# EAGLE library part AR8035 (library atheros)
Integrated 10/100/1000 Gigabit Ethernet Transceiver
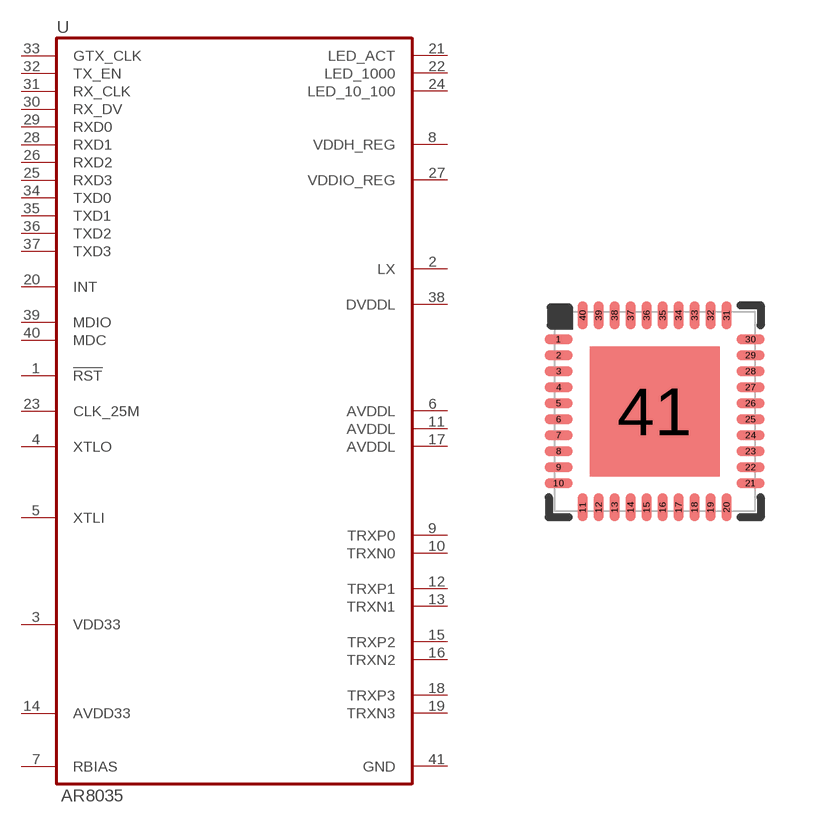
[diagram p0: symbol with the pads of QFN40; footprint QFN40]

Designator prefix U

## AR8035  [QFN40]
1  !RST!  in
2  LX  in
3  VDD33  pwr
4  XTLO  out
5  XTLI  in
6  AVDDL  pwr
7  RBIAS  in
8  VDDH_REG
9  TRXP0
10  TRXN0
11  AVDDL  pwr
12  TRXP1
13  TRXN1
14  AVDD33  pwr
15  TRXP2
16  TRXN2
17  AVDDL  pwr
18  TRXP3
19  TRXN3
20  INT
21  LED_ACT
22  LED_1000
23  CLK_25M  out
24  LED_10_100
25  RXD3
26  RXD2
27  VDDIO_REG
28  RXD1
29  RXD0
30  RX_DV
31  RX_CLK
32  TX_EN  in
33  GTX_CLK  in
34  TXD0  in
35  TXD1  in
36  TXD2  in
37  TXD3  in
38  DVDDL  pwr
39  MDIO
40  MDC  in
41  GND  pwr

## Footprint QFN40 (pad centres in mm)
40-Lead Plastic Quad Flat - [QFN40] 5x5 mm Body
smd 0.7 x 0.24: 1 -2.4,1.8; 2 -2.4,1.4; 3 -2.4,1; 4 -2.4,0.6; 5 -2.4,0.2; 6 -2.4,-0.2; 7 -2.4,-0.6; 8 -2.4,-1; 9 -2.4,-1.4; 10 -2.4,-1.8; 21 2.4,-1.8; 22 2.4,-1.4; 23 2.4,-1; 24 2.4,-0.6; 25 2.4,-0.2; 26 2.4,0.2; 27 2.4,0.6; 28 2.4,1; 29 2.4,1.4; 30 2.4,1.8
smd 0.24 x 0.7: 11 -1.8,-2.4; 12 -1.4,-2.4; 13 -1,-2.4; 14 -0.6,-2.4; 15 -0.2,-2.4; 16 0.2,-2.4; 17 0.6,-2.4; 18 1,-2.4; 19 1.4,-2.4; 20 1.8,-2.4; 31 1.8,2.4; 32 1.4,2.4; 33 1,2.4; 34 0.6,2.4; 35 0.2,2.4; 36 -0.2,2.4; 37 -0.6,2.4; 38 -1,2.4; 39 -1.4,2.4; 40 -1.8,2.4
smd 3.25 x 3.25: 41 0,0